# Altium integrated library MT3608.IntLib: 1 symbol
Pins are listed as number, name and electrical type; pins without a type are passive.

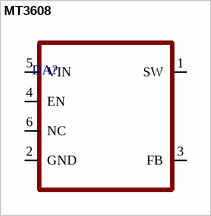
[diagram p0: symbol MT3608]

## MT3608
designator DA?
footprint SOT23-6
pins: 1 SW, 2 GND, 3 FB, 4 EN, 5 VIN, 6 NC